# Altium footprint library LM7805.PcbLib: 1 footprints
Each footprint in its own frame and in the unit in brackets; x right, y up, seen from the top. Pads: shape width x height; smd on the part's side, far side on the other; paste and mask are expansions set on the pad; w line width, h text height; cw(c..) or ccw(c..) is an arc to the next point about the centre after c.
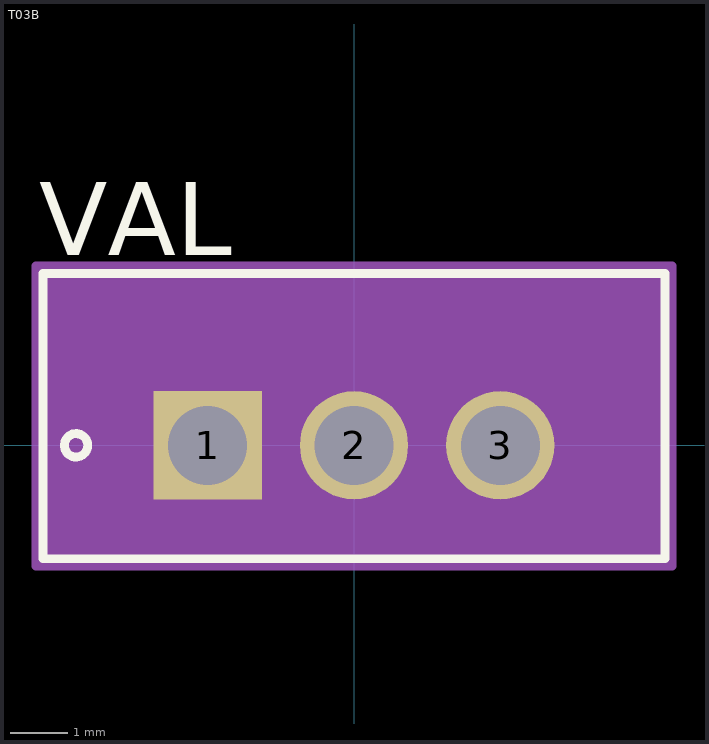
[diagram p0: the footprint, top view; thin cyan lines are the x and y axes]

## T03B [mil]
pads (3):
  rect 74x74 / inner round 60 / far side rect 74x74 hole 54: 1(-100,0)
  round 74 / inner round 60 / far side round 74 hole 54: 2(0,0) 3(100,0)
Top Overlay:
  circle w6: c-190,0 r8
  lines w6: -212.5,-77.5 212.5,-77.5 212.5,117.5 -212.5,117.5 -212.5,-77.5
  text "VAL" at -215,130 h50
Mechanical 13:
  circle w0: c-187.5,0 r8
Mechanical 15:
  region: 217.5,-82.5 -217.5,-82.5 -217.5,122.5 217.5,122.5
  lines w6: -217.5,-82.5 -217.5,122.5 217.5,122.5 217.5,-82.5 -217.5,-82.5
3D body "T03B.stp": height 770, standoff -276, extent -207.5,-72.5 207.5,112.51